# Altium footprint library MyLibrary.PcbLib: 365 footprints (part 23 of 23)
Each footprint in its own frame and in the unit in brackets; x right, y up, seen from the top. Pads: shape width x height; smd on the part's side, far side on the other; paste and mask are expansions set on the pad; w line width, h text height; cw(c..) or ccw(c..) is an arc to the next point about the centre after c.
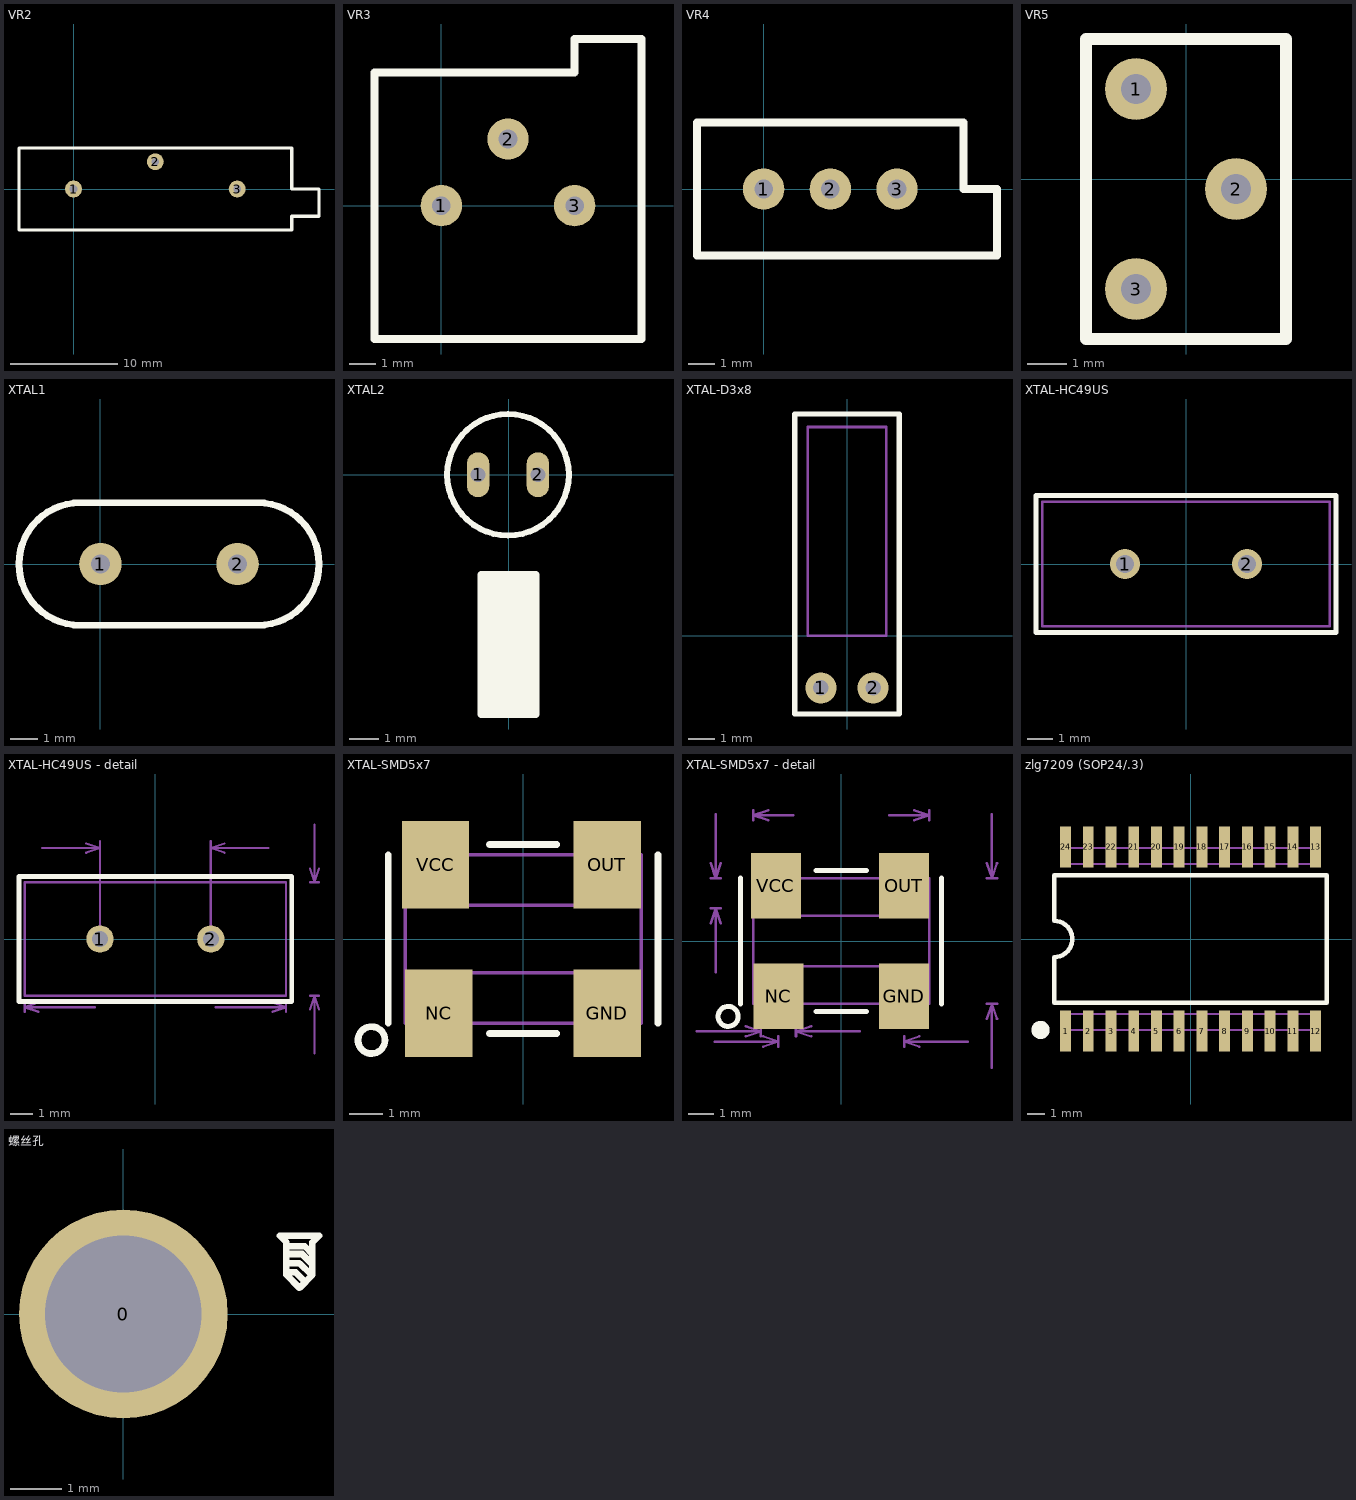
[diagram p22: the footprints below, top view; thin cyan lines are the x and y axes]

## VR2 [mil]
pads (3):
  round 62 hole 28: 1(0,0) 2(300,100) 3(600,0)
Top Overlay:
  lines w12: -200,-150 800,-150 800,-100 900,-100 900,0 800,0 800,150 -200,150 -200,-150

## VR3 [mil]
pads (3):
  round 62 hole 28: 1(0,0) 2(100,100) 3(200,0)
Top Overlay:
  lines w12: -100,-200 -100,200 200,200 200,250 300,250 300,-200 -100,-200

## VR4 [mil]
pads (3):
  round 62 hole 28: 1(0,0) 2(100,0) 3(200,0)
Top Overlay:
  lines w12: -100,-100 350,-100 350,0 300,0 300,100 -100,100 -100,-100

## VR5 [mil]
pads (3):
  round 62 hole 30: 1(-50,90) 2(50,-10) 3(-50,-110)
Top Overlay:
  lines w12: 50,-160 100,-160 100,140 -100,140 -100,115 -100,-160 75,-160

## XTAL1 [mil]
pads (2):
  round 62 hole 28: 1(0,0) 2(200,0)
Top Overlay:
  lines w10: -35,-89.35 235,-89.35 ; -29.53,-89.37 cw(c-29.53,0) -29.53,89.37 ; -29.53,89.3 230.53,89.3 ; 229.53,-89.37 ccw(c229.53,0) 229.53,89.37

## XTAL2 [mm]
pads (2):
  oval 0.75x1.5 hole 0.5: 1(-1.024,0.001) 2(0.976,0.001)
Top Overlay:
  circle w0.2: c-0.024,0.001 r2.032
  rectangle: -0.924,-7.974 0.926,-3.349
  lines w0.254: -0.924,-7.999 -0.924,-3.349 0.901,-3.349 0.901,-7.999 -0.924,-7.999

## XTAL-D3x8 [mm]
pads (2):
  round 1.2 hole 0.6: 1(-1,-2) 2(1,-2)
Top Overlay:
  lines w0.2: -2,-3 -2,8.5 2,8.5 2,-3 -2,-3
Mechanical 1:
  lines w0.1: -1.5,0 1.5,0 1.5,8 -1.5,8 -1.5,0

## XTAL-HC49US [mm]
pads (2):
  round 1.2 hole 0.7: 1(-2.44,0) 2(2.44,0)
Top Overlay:
  lines w0.2: -6,-2.75 6,-2.75 6,2.75 -6,2.75 -6,-2.75
Mechanical 1:
  lines w0.1: -5.75,-2.5 -5.75,2.5 5.75,2.5 5.75,-2.5 -5.75,-2.5

## XTAL-HC49US - detail [mm]
pads (2):
  round 1.2 hole 0.7: 1(-2.44,0) 2(2.44,0)
Top Overlay:
  lines w0.2: -6,-2.75 -6,2.75 6,2.75 6,-2.75 -6,-2.75
Mechanical 1:
  lines w0.1: -5.75,-3.2 -5.75,-2.8 ; -5.15,-3.2 -5.75,-3 ; -5.15,-2.8 -5.75,-3 ; -4.98,4 -2.44,4 ; -3.04,3.8 -2.44,4 ; -3.04,4.2 -2.44,4 ; -2.653,-3 -5.75,-3 ; -2.44,0 -2.44,4.31 ; -2.44,3.8 -2.44,4.2 ; 2.44,0 2.44,4.31 ; 2.44,3.8 2.44,4.2 ; 2.653,-3 5.75,-3 ; 3.04,3.8 2.44,4 ; 3.04,4.2 2.44,4 ; 4.98,4 2.44,4 ; 5.15,-3.2 5.75,-3 ; 5.15,-2.8 5.75,-3 ; 5.75,-3.2 5.75,-2.8 ; 6.8,-3.1 7,-2.5 ; 6.8,-2.5 7.2,-2.5 ; 6.8,2.5 7.2,2.5 ; 6.8,3.1 7,2.5 ; 7,-5.04 7,-2.5 ; 7,5.04 7,2.5 ; 7.2,-3.1 7,-2.5 ; 7.2,3.1 7,2.5 ; -5.75,-2.5 5.75,-2.5 5.75,2.5 -5.75,2.5 -5.75,-2.5
  text "5 (mm)" at 7.25,-1.5 h0.6
  text "11.5 (mm)" at -2.399,-3.4 h0.6
  text "4.88 (mm)" at -2.5,4.75 h0.6

## XTAL-SMD5x7 [mm]
pads (4):
  rect 2x2.6 smd: GND(2.5,-2.2) NC(-2.5,-2.2) OUT(2.5,2.2) VCC(-2.6,2.2)
Top Overlay:
  circle w0.2: c-4.5,-3 r0.4
  lines w0.2: -4,-2.5 -4,2.5 ; -1,-2.8 1,-2.8 ; -1,2.8 1,2.8 ; 4,-2.5 4,2.5
Mechanical 1:
  lines w0.1: -3.2,-2.5 -3.2,-1.3 -1.8,-1.3 -1.8,-2.5 ; -3.2,-1 3.2,-1 ; -3.2,1 3.2,1 ; -3.2,2.5 -3.2,1.3 -1.8,1.3 -1.8,2.5 ; 1.8,-2.5 1.8,-1.3 3.2,-1.3 3.2,-2.5 ; 1.8,2.5 1.8,1.3 3.2,1.3 3.2,2.5 ; -3.5,-2.5 3.5,-2.5 3.5,2.5 -3.5,2.5 -3.5,-2.5

## XTAL-SMD5x7 - detail [mm]
pads (4):
  rect 2x2.6 smd: GND(2.5,-2.2) NC(-2.5,-2.2) OUT(2.5,2.2) VCC(-2.6,2.2)
Top Overlay:
  circle w0.2: c-4.5,-3 r0.4
  lines w0.2: -4,-2.5 -4,2.5 ; -1,-2.8 1,-2.8 ; -1,2.8 1,2.8 ; 4,-2.5 4,2.5
Mechanical 1:
  lines w0.1: -5.74,-3.6 -3.2,-3.6 ; -5.2,0.7 -5,1.3 ; -5.2,1.3 -4.8,1.3 ; -5.2,2.5 -4.8,2.5 ; -5.2,3.1 -5,2.5 ; -5.04,-4 -2.5,-4 ; -5,-1.24 -5,1.3 ; -5,5.04 -5,2.5 ; -4.8,0.7 -5,1.3 ; -4.8,3.1 -5,2.5 ; -3.8,-3.8 -3.2,-3.6 ; -3.8,-3.4 -3.2,-3.6 ; -3.5,4.8 -3.5,5.2 ; -3.2,-3.8 -3.2,-3.4 ; -3.2,-2.5 -3.2,-1.3 -1.8,-1.3 -1.8,-2.5 ; -3.2,-1 3.2,-1 ; -3.2,1 3.2,1 ; -3.2,2.5 -3.2,1.3 -1.8,1.3 -1.8,2.5 ; -3.1,-4.2 -2.5,-4 ; -3.1,-3.8 -2.5,-4 ; -2.9,4.8 -3.5,5 ; -2.9,5.2 -3.5,5 ; -2.5,-4.2 -2.5,-3.8 ; -1.903,5 -3.5,5 ; -1.8,-3.8 -1.8,-3.4 ; -1.2,-3.8 -1.8,-3.6 ; -1.2,-3.4 -1.8,-3.6 ; 0.74,-3.6 -1.8,-3.6 ; 1.8,-2.5 1.8,-1.3 3.2,-1.3 3.2,-2.5 ; 1.8,2.5 1.8,1.3 3.2,1.3 3.2,2.5 ; 1.903,5 3.5,5 ; 2.5,-4.2 2.5,-3.8 ; 2.9,4.8 3.5,5 ; 2.9,5.2 3.5,5 ; 3.1,-4.2 2.5,-4 ; 3.1,-3.8 2.5,-4 ; 3.5,4.8 3.5,5.2 ; 5.04,-4 2.5,-4 ; 5.8,-3.1 6,-2.5 ; 5.8,-2.5 6.2,-2.5 ; 5.8,2.5 6.2,2.5 ; 5.8,3.1 6,2.5 ; 6,-5.04 6,-2.5 ; 6,5.04 6,2.5 ; 6.2,-3.1 6,-2.5 ; 6.2,3.1 6,2.5 ; -3.5,-2.5 3.5,-2.5 3.5,2.5 -3.5,2.5 -3.5,-2.5
  text "1.4 (mm)" at -10.3,-3.9 h0.6
  text "1.2 (mm)" at -5.5,-0.1 h0.6
  text "5 (mm)" at -1.6,-4.9 h0.6
  text "5 (mm)" at 6.2,-1.5 h0.6
  text "7 (mm)" at -1.649,4.6 h0.6

## zlg7209 (SOP24/.3) [mil]
pads (24):
  rect 24x90 smd: 1(-275,-202.52) 2(-225,-202.52) 3(-175,-202.52) 4(-125,-202.52) 5(-75,-202.52) 6(-25,-202.52) 7(25,-202.52) 8(75,-202.52) 9(125,-202.52) 10(175,-202.52) 11(225,-202.52) 12(275,-202.52) 13(275,202.52) 14(225,202.52) 15(175,202.52) 16(125,202.52) 17(75,202.52) 18(25,202.52) 19(-25,202.52) 20(-75,202.52) 21(-125,202.52) 22(-175,202.52) 23(-225,202.52) 24(-275,202.52)
Top Overlay:
  circle w20: c-330,-200 r10
  lines w10: -300,-140 300,-140 300,140 -300,140 -300,40 cw(c-300,0) -300,-40 -300,-140
Mechanical 1:
  lines w4: -275,-200 275,-200 ; -275,-165 275,-165 ; -275,165 275,165 ; -275,200 275,200

## 螺丝孔 [mil]
pads (1):
  round 160 hole 120 unplated: 0(0,0)
Top Overlay:
  lines w5: 125,32 132,32 139,25 140,25 ; 125,39 135,39 144,30 ; 125,46 134,46 137,46 145,38 ; 125,52 138,52 139,52 145,46 ; 120,60 150,60 145,55 145,30 135,20 125,30 125,55 120,60